# Altium footprint library Molex_430450218.PcbLib: 1 footprints
Each footprint in its own frame and in the unit in brackets; x right, y up, seen from the top. Pads: shape width x height; smd on the part's side, far side on the other; paste and mask are expansions set on the pad; w line width, h text height; cw(c..) or ccw(c..) is an arc to the next point about the centre after c.
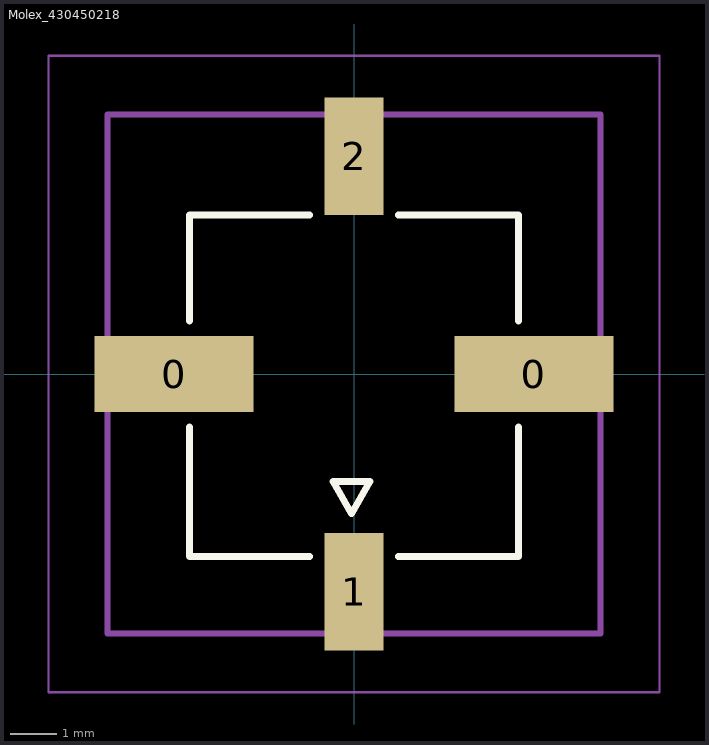
[diagram p0: the footprint, top view; thin cyan lines are the x and y axes]

## Molex_430450218 [mm]
pads (4):
  rect 3.43x1.65 smd mask+0.076: 0(-3.885,0) 0(3.885,0)
  rect 1.27x2.54 smd mask+0.076: 1(0,-4.7) 2(0,4.7)
Top Overlay:
  lines w0.15: -3.556,-1.145 -3.556,-3.937 -0.955,-3.937 ; -3.556,1.145 -3.556,3.429 -0.955,3.429 ; 0.955,-3.937 3.556,-3.937 3.556,-1.145 ; 0.955,3.429 3.556,3.429 3.556,1.145 ; -0.454,-2.317 0.346,-2.317 -0.054,-3.017 -0.454,-2.317
Mechanical 13:
  lines w0.127: -5.325,-5.6 5.325,-5.6 5.325,5.6 -5.325,5.6 -5.325,-5.6 ; -0.454,-2.317 0.346,-2.317 -0.054,-3.017 -0.454,-2.317
Mechanical 15:
  lines w0.05: -6.595,-6.87 -6.595,6.87 6.595,6.87 6.595,-6.87 -6.595,-6.87
3D body "430450218--3DModel-STEP-418109.STEP": height 9.96, standoff 0, extent -5.325,-5.6 5.325,5.6